# Altium footprint library C0402C241J3GAC7867.PcbLib: 3 footprints
Each footprint in its own frame and in the unit in brackets; x right, y up, seen from the top. Pads: shape width x height; smd on the part's side, far side on the other; paste and mask are expansions set on the pad; w line width, h text height; cw(c..) or ccw(c..) is an arc to the next point about the centre after c.
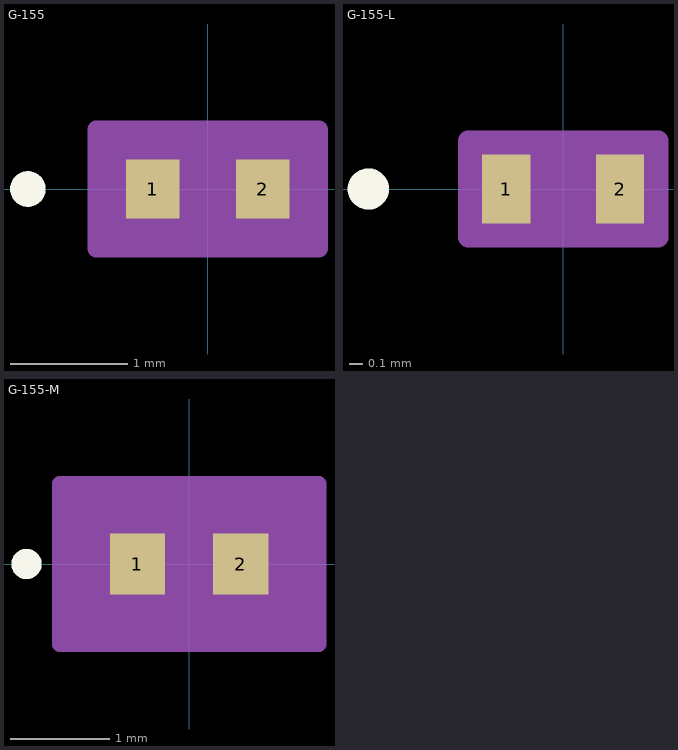
[diagram p0: the footprints below, top view; thin cyan lines are the x and y axes]

## G-155 [mil]
pads (2):
  rect 18x20 smd paste+0 mask+0: 1(-18.5,0) 2(18.5,0)
Top Overlay:
  circle w6: c-60.5,0 r3
Mechanical 13:
  circle w0: c-13.5,0 r3
  lines w1: -19.5,-10 -19.5,10 ; -19.5,-10 -9.5,-10 -9.5,10 -19.5,10 ; -19.5,-10 19.5,-10 ; -19.5,-10 -19.5,10 ; -19.5,10 19.5,10 ; 19.5,-10 9.5,-10 9.5,10 19.5,10 ; 19.5,-10 19.5,10 ; 19.5,-10 19.5,10
Mechanical 15:
  region: 37.5,-20 -37.5,-20 -37.5,20 37.5,20
  lines w6: -37.5,-20 -37.5,20 37.5,20 37.5,-20 -37.5,-20
3D body: height 10, standoff 0, extent 0,0 10,10
3D body "G-155.step": height 22.01, standoff 0, extent -18.98,-10 20,10

## G-155-L [mil]
pads (2):
  rect 14x20 smd paste+0 mask+0: 1(-16.5,0) 2(16.5,0)
Top Overlay:
  circle w6: c-56.5,0 r3
Mechanical 13:
  circle w0: c-11.5,0 r3
  lines w1: -19.5,-10 -19.5,10 ; -19.5,-10 -9.5,-10 -9.5,10 -19.5,10 ; -19.5,-10 19.5,-10 ; -19.5,-10 -19.5,10 ; -19.5,10 19.5,10 ; 19.5,-10 9.5,-10 9.5,10 19.5,10 ; 19.5,-10 19.5,10 ; 19.5,-10 19.5,10
Mechanical 15:
  region: 27.5,-14 -27.5,-14 -27.5,14 27.5,14
  lines w6: -27.5,-14 -27.5,14 27.5,14 27.5,-14 -27.5,-14
3D body: height 10, standoff 0, extent 0,0 10,10

## G-155-M [mil]
pads (2):
  rect 22x24 smd paste+0 mask+0: 1(-20.5,0) 2(20.5,0)
Top Overlay:
  circle w6: c-64.5,0 r3
Mechanical 13:
  circle w0: c-15.5,0 r3
  lines w1: -19.5,-10 -19.5,10 ; -19.5,-10 -9.5,-10 -9.5,10 -19.5,10 ; -19.5,-10 19.5,-10 ; -19.5,-10 -19.5,10 ; -19.5,10 19.5,10 ; 19.5,-10 9.5,-10 9.5,10 19.5,10 ; 19.5,-10 19.5,10 ; 19.5,-10 19.5,10
Mechanical 15:
  region: 51.5,-32 -51.5,-32 -51.5,32 51.5,32
  lines w6: -51.5,-32 -51.5,32 51.5,32 51.5,-32 -51.5,-32
3D body: height 10, standoff 0, extent 0,0 10,10